# Altium footprint library SEMI.PcbLib: 47 footprints (part 1 of 3)
Each footprint in its own frame and in the unit in brackets; x right, y up, seen from the top. Pads: shape width x height; smd on the part's side, far side on the other; paste and mask are expansions set on the pad; w line width, h text height; cw(c..) or ccw(c..) is an arc to the next point about the centre after c.
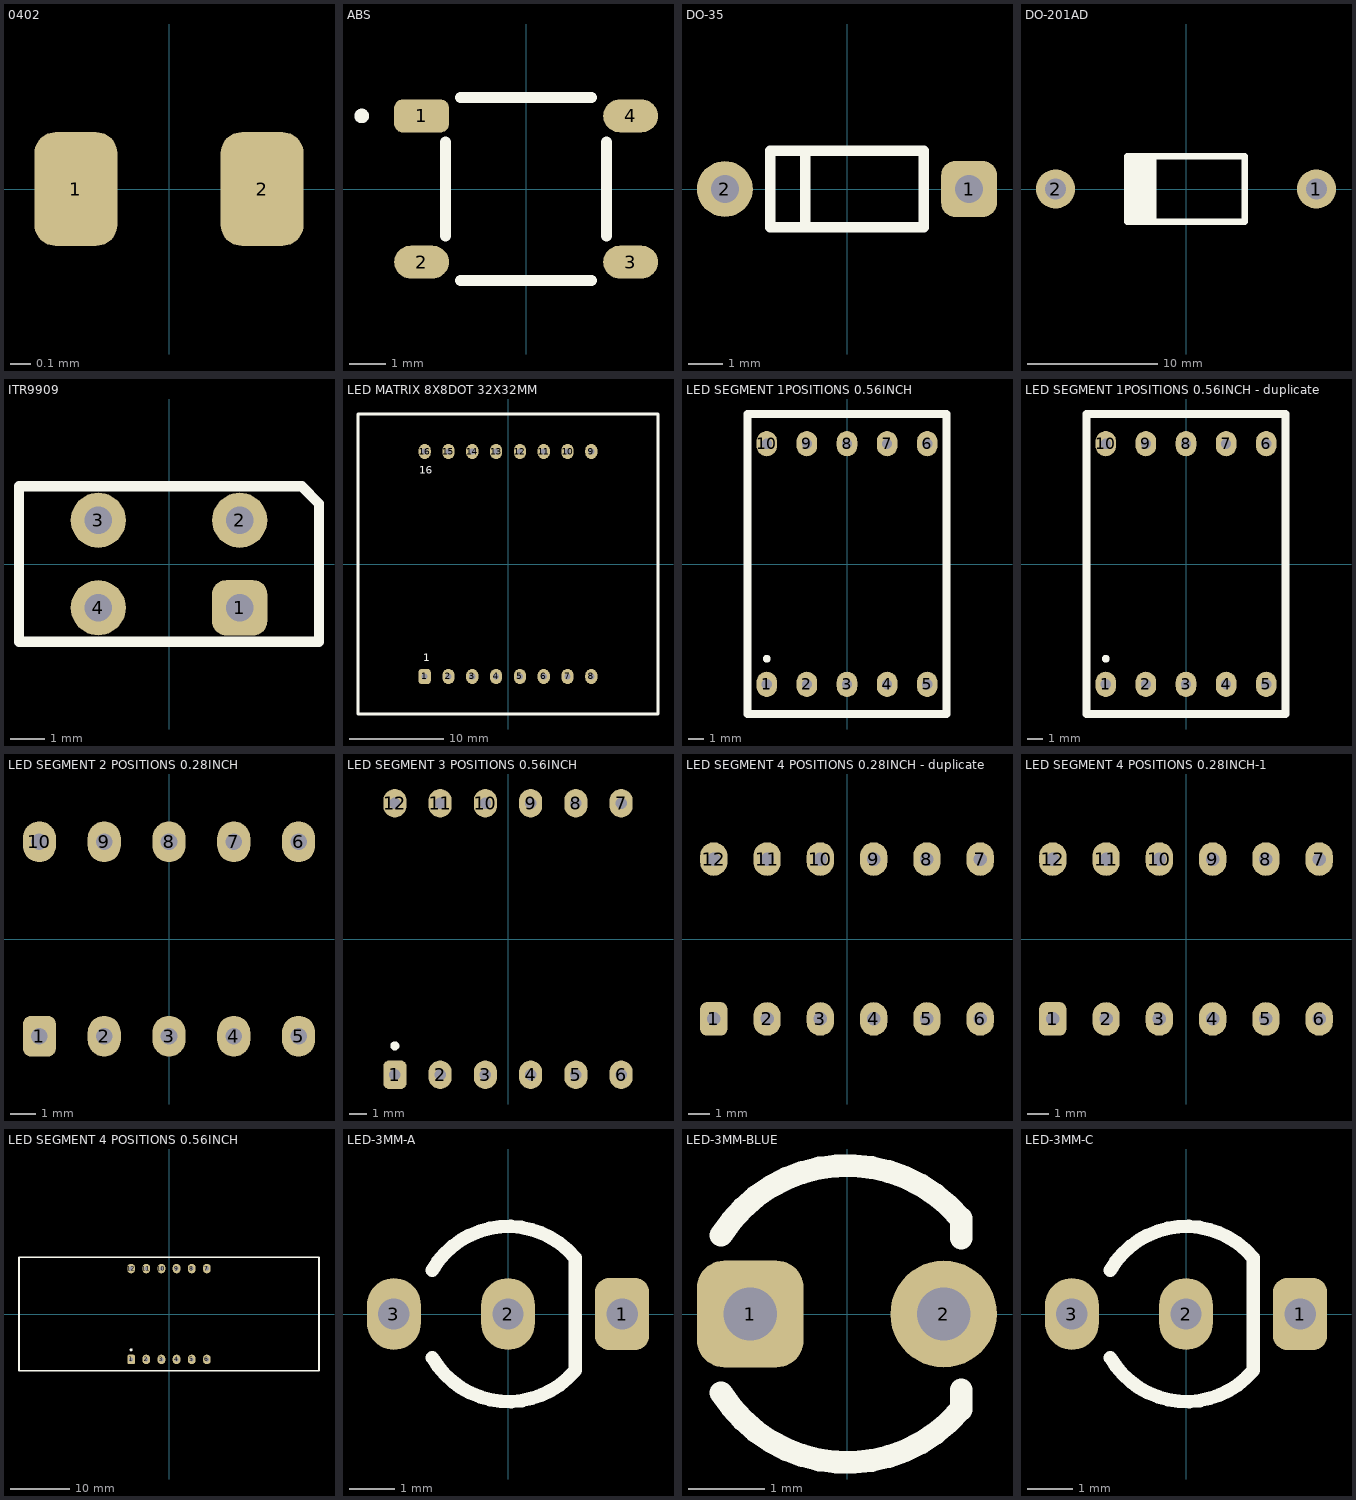
[diagram p0: the footprints below, top view; thin cyan lines are the x and y axes]

## 0402 [mm]
height 0.4
pads (2):
  rrect50% 0.4x0.55 smd: 1(-0.45,0) 2(0.45,0)
3D body "step_temp.STEP": height 0.4, standoff 0, extent -0.5,-0.25 0.5,0.25

## ABS [mm]
pads (4):
  rrect50% 1.5x0.9 smd: 1(-2.86,2)
  oval 1.5x0.9 smd: 2(-2.86,-2) 3(2.86,-2) 4(2.86,2)
Top Overlay:
  circle w0.2: c-4.5,2 r0.1
  lines w0.3: -2.2,-1.28 -2.2,1.28 ; -1.79,-2.5 1.79,-2.5 ; -1.79,2.5 1.79,2.5 ; 2.2,-1.28 2.2,1.28
3D body "step_temp.STEP": height 1.6, standoff 0, extent -3.225,-2.5 3.225,2.5

## DO-35 [mm]
pads (2):
  rrect50% 1.6x1.6 hole 0.8: 1(3.5,0)
  round 1.6 hole 0.8: 2(-3.5,0)
Top Overlay:
  lines w0.3: -2.2,-1.1 2.2,-1.1 ; -2.148,-1.1 -2.2,-1.048 -2.2,1.1 2.2,1.1 2.2,-1.057 ; -1.2,-1.062 -1.2,1.1
3D body "1n4148.STEP": height 2, standoff -3.3, extent -4.11,-1 4.11,1

## DO-201AD [mm]
pads (2):
  round 3 hole 1.6 mask+0.2: 1(10,0) 2(-10,0)
Top Overlay:
  lines w0.5: -4.11,-2.5 -4.11,2.5 ; -3.729,-2.5 -3.729,2.5 ; -3.348,-2.5 -3.348,2.5 ; -2.967,-2.5 -2.967,2.5 ; -2.5,-2.5 -2.5,2.5 ; -4.5,-2.5 -4.5,2.5 4.5,2.5 4.5,-2.5 -4.5,-2.5
3D body "DIODE_DO-201AD.step": height 5.44, standoff -2.44, extent -10.66,-2.67 10.726,2.67

## ITR9909 [mm]
pads (4):
  rrect50% 1.6x1.6 hole 0.8: 1(2.05,-1.27)
  round 1.6 hole 0.8: 2(2.05,1.27) 3(-2.05,1.27) 4(-2.05,-1.27)
Top Overlay:
  lines w0.3: -4.35,-2.25 -4.35,2.25 3.85,2.25 4.35,1.75 4.35,-2.25 -4.35,-2.25
3D body "ITR9909.step": height 6, standoff -2.45, extent -4.35,-2.25 4.35,2.25

## LED MATRIX 8X8DOT 32X32MM [mm]
pads (16):
  rrect50% 1.3x1.6 hole 0.65 mask+0.15: 1(-8.89,-12)
  oval 1.3x1.6 hole 0.65 mask+0.15: 2(-6.35,-12) 3(-3.81,-12) 4(-1.27,-12) 5(1.27,-12) 6(3.81,-12) 7(6.35,-12) 8(8.89,-12) 9(8.89,12) 10(6.35,12) 11(3.81,12) 12(1.27,12) 13(-1.27,12) 14(-3.81,12) 15(-6.35,12) 16(-8.89,12)
Top Overlay:
  lines w0.3: -16,-16 16,-16 16,16 -16,16 -16,-16
  text "1" at -9.023,-10.4 h0.8
  text "16" at -9.49,9.6 h0.8
3D body "LED_MATRIX_8X8-32X32MM.stp": height 6.08, standoff -2.7, extent -16,-16 16,16

## LED SEGMENT 1POSITIONS 0.56INCH [mm]
pads (10):
  oval 1.3x1.6 hole 0.65 mask+0.15: 1(-5.08,-7.62) 2(-2.54,-7.62) 3(0,-7.62) 4(2.54,-7.62) 5(5.08,-7.62) 6(5.08,7.62) 7(2.54,7.62) 8(0,7.62) 9(-2.54,7.62) 10(-5.08,7.62)
Top Overlay:
  circle w0.3: c-5.08,-6 r0.1
  lines w0.5: -6.3,-9.5 6.3,-9.5 6.3,9.5 -6.3,9.5 -6.3,-9.5
3D body "7Seg_1Digit_0.56.step": height 8, standoff -4.65, extent -6.3,-9.5 6.3,9.5

## LED SEGMENT 1POSITIONS 0.56INCH - duplicate [mm]
pads (10):
  oval 1.3x1.6 hole 0.65 mask+0.15: 1(-5.08,-7.62) 2(-2.54,-7.62) 3(0,-7.62) 4(2.54,-7.62) 5(5.08,-7.62) 6(5.08,7.62) 7(2.54,7.62) 8(0,7.62) 9(-2.54,7.62) 10(-5.08,7.62)
Top Overlay:
  circle w0.3: c-5.08,-6 r0.1
  lines w0.5: -6.3,-9.5 6.3,-9.5 6.3,9.5 -6.3,9.5 -6.3,-9.5
3D body "7Seg_1Digit_0.56.step": height 8, standoff -4.65, extent -6.3,-9.5 6.3,9.5

## LED SEGMENT 2 POSITIONS 0.28INCH [mm]
pads (10):
  rrect50% 1.3x1.6 hole 0.65 mask+0.15: 1(-5.08,-3.81)
  oval 1.3x1.6 hole 0.65 mask+0.15: 2(-2.54,-3.81) 3(0,-3.81) 4(2.54,-3.81) 5(5.08,-3.81) 6(5.08,3.81) 7(2.54,3.81) 8(0,3.81) 9(-2.54,3.81) 10(-5.08,3.81)

## LED SEGMENT 3 POSITIONS 0.56INCH [mm]
pads (12):
  rrect50% 1.3x1.6 hole 0.65 mask+0.15: 1(-6.35,-7.62)
  oval 1.3x1.6 hole 0.65 mask+0.15: 2(-3.81,-7.62) 3(-1.27,-7.62) 4(1.27,-7.62) 5(3.81,-7.62) 6(6.35,-7.62) 7(6.35,7.62) 8(3.81,7.62) 9(1.27,7.62) 10(-1.27,7.62) 11(-3.81,7.62) 12(-6.35,7.62)
Top Overlay:
  circle w0.3: c-6.35,-6 r0.1
3D body "7SEGMENT_ThreeDigit(0.56)[1].step": height 8, standoff -2.9, extent -18.8,-9.5 18.8,9.5

## LED SEGMENT 4 POSITIONS 0.28INCH - duplicate [mm]
pads (12):
  rrect50% 1.3x1.6 hole 0.65 mask+0.15: 1(-6.35,-3.81)
  oval 1.3x1.6 hole 0.65 mask+0.15: 2(-3.81,-3.81) 3(-1.27,-3.81) 4(1.27,-3.81) 5(3.81,-3.81) 6(6.35,-3.81) 7(6.35,3.81) 8(3.81,3.81) 9(1.27,3.81) 10(-1.27,3.81) 11(-3.81,3.81) 12(-6.35,3.81)
3D body "LDQ-M284RI-SI.STEP": height 5.8, standoff -7.45, extent -16.1,-5.1 16.1,5.1

## LED SEGMENT 4 POSITIONS 0.28INCH-1 [mm]
pads (12):
  rrect50% 1.3x1.6 hole 0.65 mask+0.15: 1(-6.35,-3.81)
  oval 1.3x1.6 hole 0.65 mask+0.15: 2(-3.81,-3.81) 3(-1.27,-3.81) 4(1.27,-3.81) 5(3.81,-3.81) 6(6.35,-3.81) 7(6.35,3.81) 8(3.81,3.81) 9(1.27,3.81) 10(-1.27,3.81) 11(-3.81,3.81) 12(-6.35,3.81)
3D body "LDQ-M284RI-SI.STEP": height 11.8, standoff -1.45, extent -16.1,-5.1 16.1,5.1

## LED SEGMENT 4 POSITIONS 0.56INCH [mm]
pads (12):
  rrect50% 1.3x1.6 hole 0.65 mask+0.15: 1(-6.35,-7.62)
  oval 1.3x1.6 hole 0.65 mask+0.15: 2(-3.81,-7.62) 3(-1.27,-7.62) 4(1.27,-7.62) 5(3.81,-7.62) 6(6.35,-7.62) 7(6.35,7.62) 8(3.81,7.62) 9(1.27,7.62) 10(-1.27,7.62) 11(-3.81,7.62) 12(-6.35,7.62)
Top Overlay:
  circle w0.3: c-6.35,-6 r0.1
  lines w0.3: -25.15,-9.5 -25.15,9.5 25.15,9.5 25.15,-9.5 -25.15,-9.5
3D body "7Seg_4Digit_0.56.step": height 8, standoff -4.65, extent -25.15,-9.5 25.15,9.5

## LED-3MM-A [mm]
pads (3):
  rrect50% 1.2x1.6 hole 0.7 mask+0.15: 1(2.54,0)
  oval 1.2x1.6 hole 0.7 mask+0.15: 2(0,0) 3(-2.54,0)
Top Overlay:
  lines w0.3: -1.689,0.975 cw(c0,0) 1.494,1.253 ; -1.683,-0.975 ccw(c0.006,0) 1.5,-1.253 1.5,1.253
3D body "XLxxxx34x.step": height 7, standoff -22.5, extent -2.89,-1.998 2.89,1.998

## LED-3MM-BLUE [mm]
pads (2):
  rrect50% 1.4x1.4 hole 0.7 mask+0.15: 1(-1.27,0)
  round 1.4 hole 0.7 mask+0.15: 2(1.27,0)
Top Overlay:
  lines w0.3: -1.654,-1.033 ccw(c0,0) 1.494,-1.253 ; -1.654,1.033 cw(c0,0) 1.494,1.253 ; 1.5,-1.253 1.5,-1 ; 1.5,1 1.5,1.253
3D body "LED-3mm-BLUE.step": height 6, standoff -17, extent -1.925,-1.923 1.5,1.923

## LED-3MM-C [mm]
pads (3):
  rrect50% 1.2x1.6 hole 0.7 mask+0.15: 1(2.54,0)
  oval 1.2x1.6 hole 0.7 mask+0.15: 2(0,0) 3(-2.54,0)
Top Overlay:
  lines w0.3: -1.689,0.975 cw(c0,0) 1.494,1.253 ; -1.683,-0.975 ccw(c0.006,0) 1.5,-1.253 1.5,1.253
3D body "XLxxxx34x.step": height 7, standoff -22.5, extent -2.89,-1.998 2.89,1.998